# Altium integrated library Trimmer Potentiometers.IntLib: 2 symbols
Pins are listed as number, name and electrical type; pins without a type are passive.

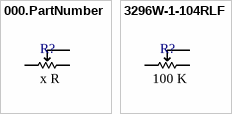
[diagram p0: symbols 000.PartNumber to 3296W-1-104RLF]

## 000.PartNumber
designator R?  Resistance: x R  (hidden comment: *)
Digikey Description; Manufacturer: *; Series: *; Package: *; Power (Watts): *; Tolerance: *; Temperature Coefficient: *; Number of Turns: *; Adjustment Type: *; Resistive Material: *; Mounting Type: *; Termination Style: *; Size / Dimension: *; Base Product Number: *; Ozdisan Link: *; Digikey Link: *; Farnell TR Link: *; Mouser Link: *
pins: 1, 2, 3

## 3296W-1-104RLF
designator R?  Resistance: 100 K  (hidden comment: *)
TRIMMER 100K OHM 0.5W PC PIN TOP; Manufacturer: Bourns Inc.; Power (Watts): 0.5W, 1/2W; Tolerance: ±10%; Temperature Coefficient: ±100ppm/°C; Number of Turns: 25; Adjustment Type: Top Adjustment; Resistive Material: Cermet; Base Product Number: 3296W; Series: Trimpot® 3296 - Sealed; Package: Tape & Reel (TR); Mounting Type: Through Hole; Termination Style: PC Pins; Size / Dimension: Rectangular - 0.375" x 0.190" Face x 0.395" H (9.53mm x 4.83mm x 10.03mm); Ozdisan Link: https://ozdisan.com/Product/Detail/487777/3296W-1-104LF-BN; Digikey Link: https://www.digikey.com/en/products/detail/bourns-inc/3296W-1-104RLF/2535871; Farnell TR Link: https://tr.farnell.com/bourns/3296w-1-104lf/trimmer-25-turn-100k/dp/9353194?st=3296w-1-104rlf; Mouser Link: https://www.mouser.com.tr/ProductDetail/Bourns/3296W-1-104RLF?qs=L51TDuM0cPDJlywbd0t8jQ%3D%3D
footprint BOURNS_3296W
pins: 1, 2, 3